# Altium schematic symbol library MFL Backlight Spacer.Schlib: 1 symbol
Pins are listed as number, name and electrical type; pins without a type are passive.

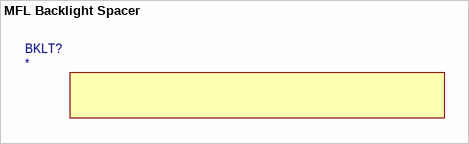
[diagram p0: symbol MFL Backlight Spacer]

## MFL Backlight Spacer
designator BKLT?  (mechanical)